# EAGLE library part SI4133 (library U-Silicon-Labs-Si4133-synthesizer)
RF Synthesizer w/ integrated VCOs (RF1/RF2/IF OUT)
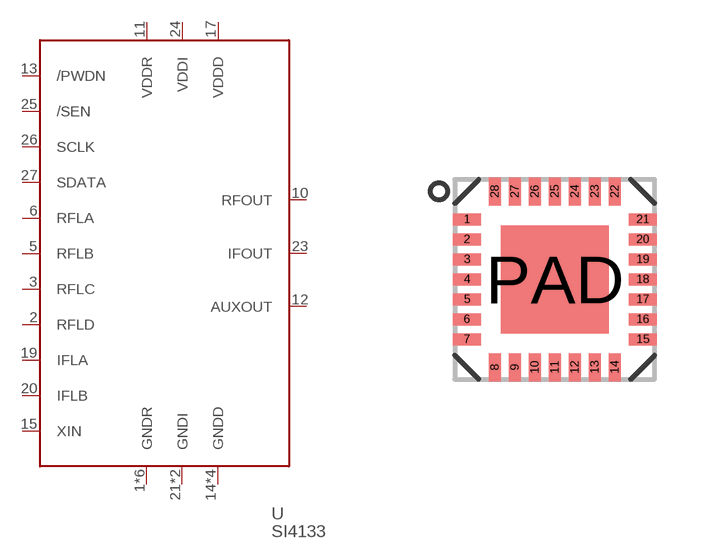
[diagram p0: symbol with the pads of QFN28-5X5-WITH-CENTER-PAD; footprint QFN28-5X5-WITH-CENTER-PAD]

Designator prefix U

## SI4133  [QFN28-5X5-WITH-CENTER-PAD]
1  GNDR  pwr
2  RFLD  in
3  RFLC  in
4  GNDR  pwr
5  RFLB  in
6  RFLA  in
7  GNDR  pwr
8  GNDR  pwr
9  GNDR  pwr
10  RFOUT  out
11  VDDR  pwr
12  AUXOUT  out
13  /PWDN  in
14  GNDD  pwr
15  XIN  in
16  GNDD  pwr
17  VDDD  pwr
18  GNDD  pwr
19  IFLA  in
20  IFLB  in
21  GNDI  pwr
22  GNDI  pwr
23  IFOUT  out
24  VDDI  pwr
25  /SEN  in
26  SCLK  in
27  SDATA  in
28  GNDR  pwr
PAD  GNDD  pwr

## Footprint QFN28-5X5-WITH-CENTER-PAD (pad centres in mm)
smd 0.7 x 0.3: 1 -2.2,1.5; 2 -2.2,1; 3 -2.2,0.5; 4 -2.2,0; 5 -2.2,-0.5; 6 -2.2,-1; 7 -2.2,-1.5; 15 2.2,-1.5; 16 2.2,-1; 17 2.2,-0.5; 18 2.2,0; 19 2.2,0.5; 20 2.2,1; 21 2.2,1.5
smd 0.3 x 0.7: 8 -1.5,-2.2; 9 -1,-2.2; 10 -0.5,-2.2; 11 0,-2.2; 12 0.5,-2.2; 13 1,-2.2; 14 1.5,-2.2; 22 1.5,2.2; 23 1,2.2; 24 0.5,2.2; 25 0,2.2; 26 -0.5,2.2; 27 -1,2.2; 28 -1.5,2.2
smd 2.7 x 2.7: PAD 0,0